# Altium schematic symbol library SZSMF5P0AT1G.SchLib: 1 symbol
Pins are listed as number, name and electrical type; pins without a type are passive.

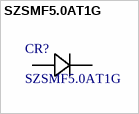
[diagram p0: symbol SZSMF5.0AT1G]

## SZSMF5.0AT1G
designator CR?
Description; Manufacturer_Name: Littelfuse Inc; Copyright: Copyright (C) 2025 Ultra Librarian. All rights reserved.; Manufacturer_Part_Number: SZSMF5.0AT1G
footprint CR_SZSMF_LTF
pins: 1, 2